# EAGLE library part TPS7B8133QDGNRQ1 (library TPS7B8133QDGNRQ1)
LDO Voltage Regulators LDO Source: Datasheet <https://www.ti.com/lit/gpn/TPS7B81-Q1>
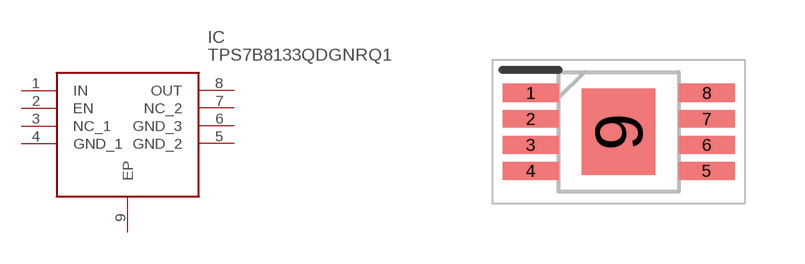
[diagram p0: symbol with the pads of SOP65P490X110-9N; footprint SOP65P490X110-9N]

Designator prefix IC

## TPS7B8133QDGNRQ1 (Arrow_Part_Number: TPS7B8133QDGNRQ1; Arrow_Price-Stock: https://www.arrow.com/en/products/tps7b8133qdgnrq1/texas-instruments.html?utm_currency=USD&region=nac; Description: LDO Voltage Regulators LDO; Height: 1.1mm; Manufacturer_Name: Texas Instruments; Manufacturer_Part_Number: TPS7B8133QDGNRQ1; Mouser_Part_Number: 595-TPS7B8133QDGNRQ1; Mouser_Price-Stock: https://www.mouser.co.uk/ProductDetail/Texas-Instruments/TPS7B8133QDGNRQ1?qs=%252B6g0mu59x7IqdAmnBzYlcw%3D%3D)  [SOP65P490X110-9N]
1  IN
2  EN
3  NC_1
4  GND_1
5  GND_2
6  GND_3
7  NC_2
8  OUT
9  EP

## Footprint SOP65P490X110-9N (pad centres in mm)
DGN (S-PDSO-G8)-
smd 1.4 x 0.45: 1 -2.2,0.975; 2 -2.2,0.325; 3 -2.2,-0.325; 4 -2.2,-0.975; 5 2.2,-0.975; 6 2.2,-0.325; 7 2.2,0.325; 8 2.2,0.975
smd 1.846 x 2.15: 9 0,0